# Altium schematic symbol library Connectors.SchLib: 17 symbols
Pins are listed as number, name and electrical type; pins without a type are passive.

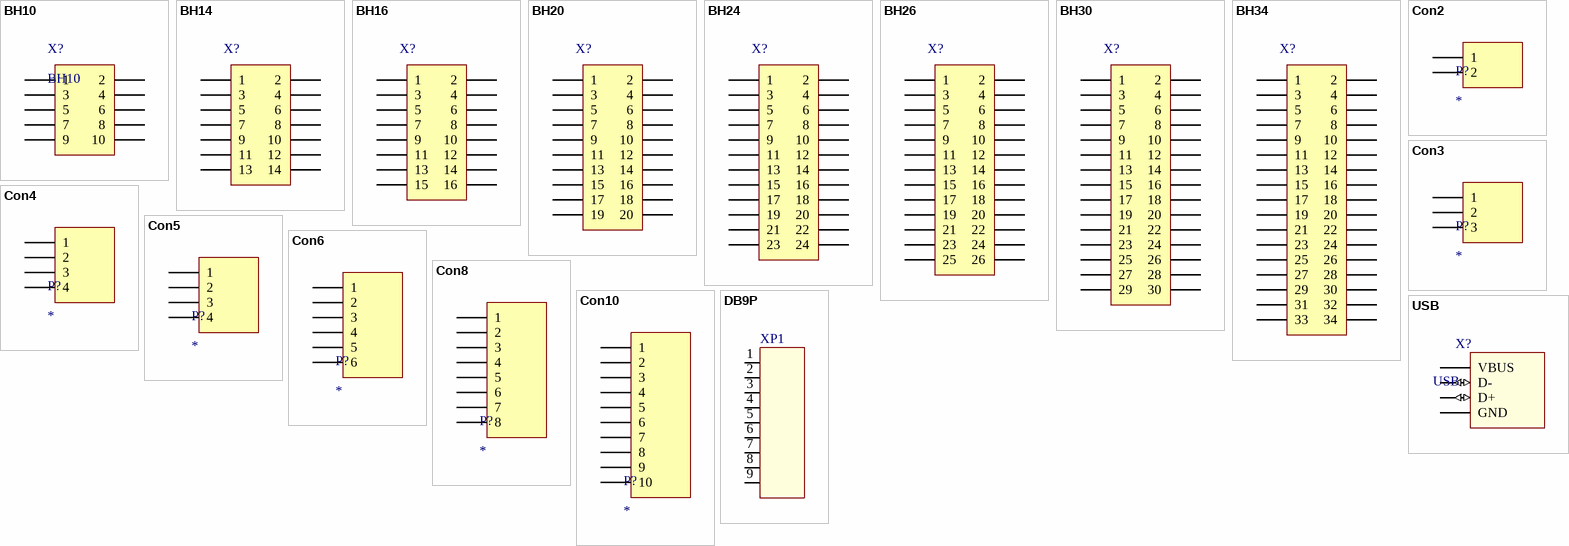
[diagram p0: symbols BH10 to USB]

## BH10
designator X?
footprint BH10
pins: 1, 2, 3, 4, 5, 6, 7, 8, 9, 10

## BH14
designator X?
footprint BH14
pins: 1, 2, 3, 4, 5, 6, 7, 8, 9, 10, 11, 12, 13, 14

## BH16
designator X?
footprint BH16
pins: 1, 2, 3, 4, 5, 6, 7, 8, 9, 10, 11, 12, 13, 14, 15, 16

## BH20
designator X?
footprint BH20
pins: 1, 2, 3, 4, 5, 6, 7, 8, 9, 10, 11, 12, 13, 14, 15, 16, 17, 18, 19, 20

## BH24
designator X?
footprint BH24
pins: 1, 2, 3, 4, 5, 6, 7, 8, 9, 10, 11, 12, 13, 14, 15, 16, 17, 18, 19, 20, 21, 22, 23, 24

## BH26
designator X?
footprint BH26
pins: 1, 2, 3, 4, 5, 6, 7, 8, 9, 10, 11, 12, 13, 14, 15, 16, 17, 18, 19, 20, 21, 22, 23, 24, 25, 26

## BH30
designator X?
footprint BH30
pins: 1, 2, 3, 4, 5, 6, 7, 8, 9, 10, 11, 12, 13, 14, 15, 16, 17, 18, 19, 20, 21, 22, 23, 24, 25, 26, 27, 28, 29, 30

## BH34
designator X?
footprint BH34
pins: 1, 2, 3, 4, 5, 6, 7, 8, 9, 10, 11, 12, 13, 14, 15, 16, 17, 18, 19, 20, 21, 22, 23, 24, 25, 26, 27, 28, 29, 30, 31, 32, 33, 34

## Con2
designator P?
footprint WF2
footprint DG125-5.0-02P
footprint HDR1X2 (Header; 2 Position)
pins: 1, 2

## Con3
designator P?
footprint WF3
footprint DG125-5.0-03P
footprint HDR1X3 (Header; 3 Position)
footprint HDR1X3O (Header; 3 Position)
pins: 1, 2, 3

## Con4
designator P?
footprint WF4
footprint DG125-5.0-04P
footprint HDR1X4 (Header; 4 Position)
footprint HDR1X4O (Header; 4 Position)
pins: 1, 2, 3, 4

## Con5
designator P?
footprint HDR1X5 (Header; 5 Position)
footprint HDR1X5O (Header; 5 Position)
pins: 1, 2, 3, 4

## Con6
designator P?
footprint WF6
footprint HDR1X6 (Header; 6 Position)
footprint HDR1X6O (Header; 6 Position)
pins: 1, 2, 3, 4, 5, 6

## Con8
designator P?
footprint WF8
footprint HDR1X8 (Header; 8 Position)
footprint HDR1X8O (Header; 8 Position)
pins: 1, 2, 3, 4, 5, 6, 7, 8

## Con10
designator P?
footprint WF10
footprint HDR1X10 (Header; 10 Position)
footprint HDR1X10O (Header; 10 Position)
pins: 1, 2, 3, 4, 5, 6, 7, 8, 9, 10

## DB9P
designator XP1  (value not drawn)
Sim Note: Enter the Resistance value and the set point into parameter fields.; Set Position: 0.5; Value: 10K; Published: 8-Jun-2000; LatestRevisionDate: 17-Jul-2002; LatestRevisionNote: Re-released for DXP Platform.; PackageReference: VR5; Publisher: Altium Limited
footprint DB9P (Variable Resistor, Thru-Hole; 3 Leads)
pins: 1, 2, 3, 4, 5, 6, 7, 8, 9
1 alternate drawing of the same symbol

## USB
designator X?
footprint USB2.5-2H4D (Connector; USB1.1, Type B, Thru-Hole; 4 Position; Right Angle)
footprint ESB021x01 (Connector; USB1.1, Type B, Thru-Hole; 4 Position; Straight)
pins: 1 VBUS (power), 2 D- (io), 3 D+ (io), 4 GND (power)